# Altium schematic symbol library IPP111N15N3GXKSA1.SchLib: 1 symbol
Pins are listed as number, name and electrical type; pins without a type are passive.

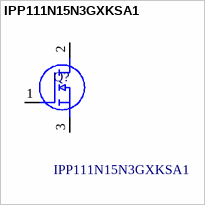
[diagram p0: symbol IPP111N15N3GXKSA1]

## IPP111N15N3GXKSA1
designator Q?
MOSFET N-Ch 150V 83A TO220-3 OptiMOS 3; Manufacturer_Name: Infineon; Geometry.Height: 4.57mm; Manufacturer_Part_Number: IPP111N15N3GXKSA1; Mouser Part Number: 726-IPP111N15N3GXKSA; Mouser Price/Stock: https://www.mouser.co.uk/ProductDetail/Infineon-Technologies/IPP111N15N3GXKSA1?qs=OwbwYO03UsJO1bujDVMB%2Fw%3D%3D; Arrow Part Number: IPP111N15N3GXKSA1; Arrow Price/Stock: https://www.arrow.com/en/products/ipp111n15n3gxksa1/infineon-technologies-ag?region=europe; Datasheet Link: https://componentsearchengine.com/Datasheets/2/IPP111N15N3GXKSA1.pdf
footprint TO254P457X1003X2115-3P
pins: 1 G, 2 D, 3 S